# Altium footprint library Microstrip.PcbLib: 11 footprints
Each footprint in its own frame and in the unit in brackets; x right, y up, seen from the top. Pads: shape width x height; smd on the part's side, far side on the other; paste and mask are expansions set on the pad; w line width, h text height; cw(c..) or ccw(c..) is an arc to the next point about the centre after c.
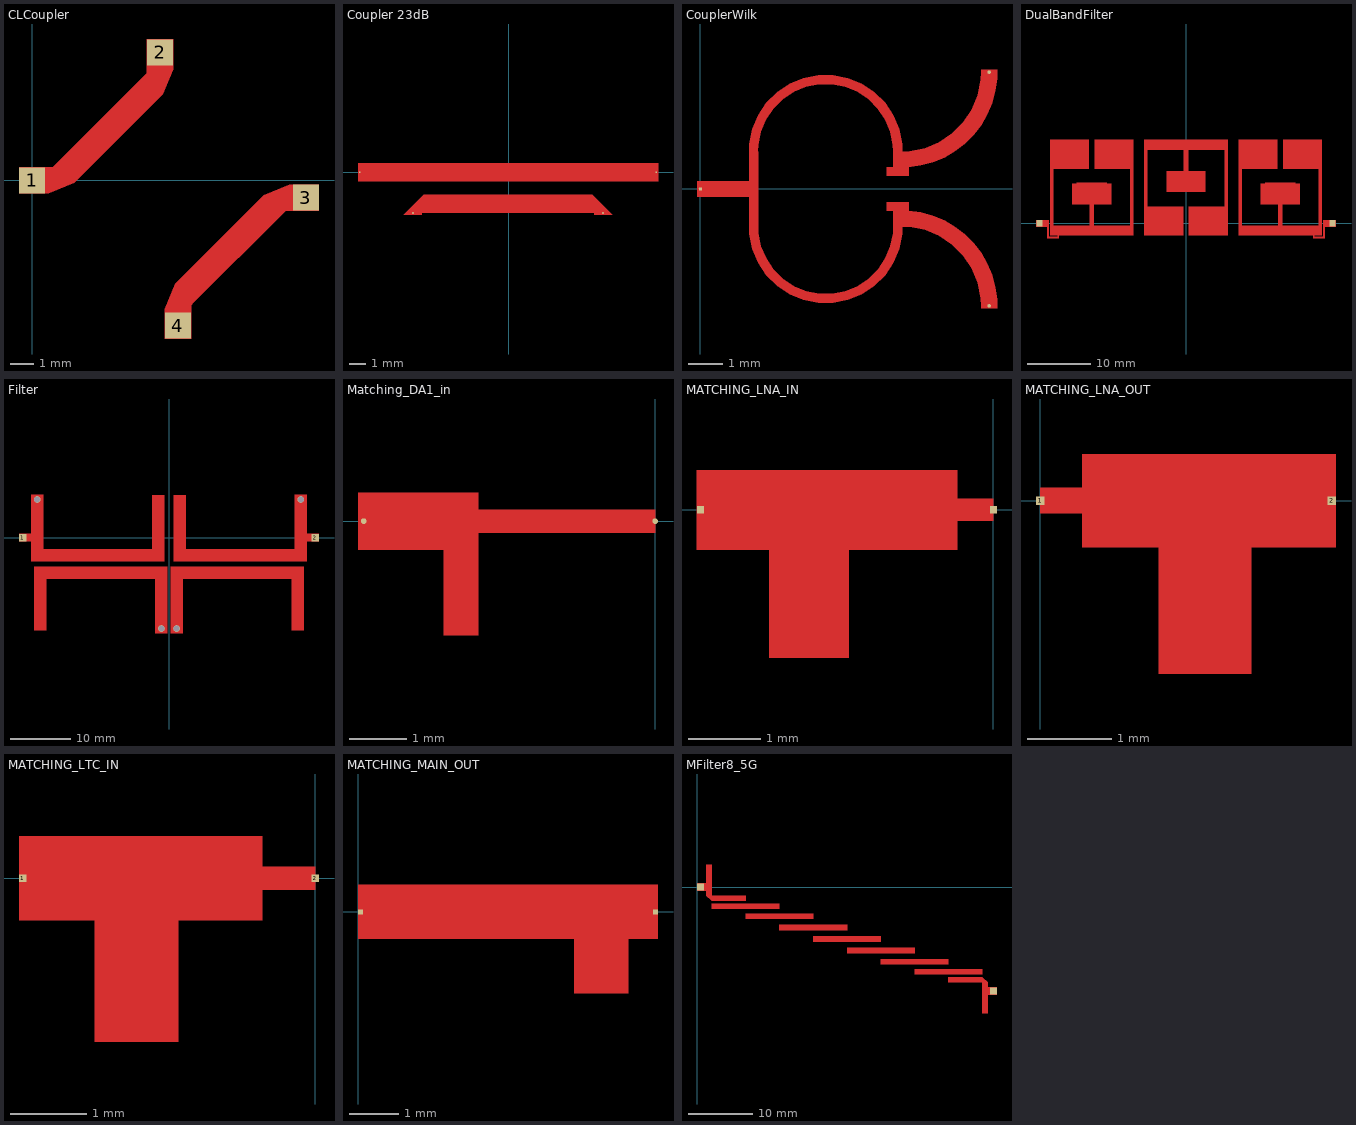
[diagram p0: the footprints below, top view; thin cyan lines are the x and y axes]

## CLCoupler [mm] "Coupler 40 dB, diel RO4003 0.5 oz ED 20 mil"
pads (4):
  rect 1.1x1.1 smd paste-0.55 mask-0.55: 1(0,0) 2(5.375,5.375) 3(11.5,-0.725) 4(6.125,-6.1)
Top Layer:
  region: 5.575,-6.65 5.575,-5.42 6.007,-4.35 9.725,-0.625 10.8,-0.175 12.05,-0.175 12.05,-1.275 10.65,-1.275 10.525,-1.4 6.785,-5.128 6.675,-5.25 6.675,-6.65
  region: -0.55,-0.55 -0.55,0.55 0.875,0.549 0.987,0.67 4.713,4.397 4.825,4.5 4.825,5.925 5.925,5.925 5.925,4.675 5.491,3.619 1.765,-0.108 0.7,-0.55

## Coupler 23dB [mm] "Copuler, 23 dB, diel RO4003, h=0.5mm"
pads (4):
  round 0.1 smd paste-0.05 mask-0.05: 1(-9.059,0) 2(8.941,0) 3(5.709,-2.467) 4(-5.826,-2.467)
Top Layer:
  region: -5.276,-2.567 -5.276,-2.45 -5.159,-2.45 5.159,-2.45 5.159,-2.567 6.259,-2.567 5.041,-1.35 -5.159,-1.35 -6.376,-2.567
  region: -9.159,-0.55 -9.159,0.55 9.041,0.55 9.041,-0.55

## CouplerWilk [mm] "Wilkinson Coupler diel 7.2GHz, RO4003, h=0.2mm"
pads (3):
  round 0.1 smd paste-0.1 mask-0.1: 1(0,0) 2(8.278,3.35) 3(8.278,-3.35)
Top Layer:
  region: 8.053,-3.425 8.053,-3.35 8.503,-3.35 8.503,-3.425
  region: 8.053,3.35 8.053,3.425 8.503,3.425 8.503,3.35
  region: 1.401,-1.074 1.401,-0.226 -0.1,-0.226 -0.1,0.226 1.401,0.226 1.401,1.074 1.401,1.29 1.485,1.713 1.65,2.112 1.89,2.47 2.195,2.775 2.554,3.015 2.952,3.18 3.375,3.264 3.806,3.264 4.229,3.18 4.628,3.015 4.986,2.775 5.291,2.47 5.531,2.112 5.696,1.713 5.78,1.29 5.78,1.074 6.003,1.086 6.44,1.173 6.852,1.344 7.222,1.592 7.538,1.907 7.785,2.278 7.956,2.69 8.042,3.127 8.053,3.35 8.503,3.35 8.503,3.172 8.456,2.818 8.364,2.473 8.227,2.143 8.049,1.834 7.832,1.551 7.579,1.299 7.296,1.081 6.987,0.903 6.657,0.766 6.312,0.674 5.959,0.627 5.78,0.627 5.78,0.625 5.966,0.625 5.966,0.376 5.341,0.376 5.341,0.625 5.529,0.625 5.529,1.074 5.519,1.265 5.445,1.638 5.299,1.989 5.088,2.305 4.819,2.574 4.503,2.786 4.151,2.931 3.778,3.006 3.398,3.006 3.025,2.931 2.673,2.786 2.357,2.574 2.088,2.305 1.877,1.989 1.731,1.638 1.657,1.265 1.648,1.074 1.65,1.074 1.65,-1.074 1.659,-1.265 1.734,-1.638 1.879,-1.989 2.091,-2.305 2.36,-2.574 2.676,-2.786 3.027,-2.931 3.4,-3.006 3.781,-3.006 4.154,-2.931 4.505,-2.786 4.822,-2.574 5.091,-2.305 5.302,-1.989 5.448,-1.638 5.522,-1.265 5.531,-1.074 5.529,-1.074 5.529,-0.625 5.341,-0.625 5.341,-0.376 5.966,-0.376 5.966,-0.625 5.78,-0.625 5.959,-0.625 6.313,-0.672 6.657,-0.765 6.987,-0.901 7.296,-1.08 7.579,-1.298 7.832,-1.55 8.049,-1.834 8.227,-2.143 8.364,-2.473 8.456,-2.818 8.503,-3.172 8.503,-3.35 8.053,-3.35 8.042,-3.127 7.956,-2.69 7.785,-2.279 7.537,-1.908 7.222,-1.593 6.852,-1.345 6.44,-1.175 6.003,-1.088 5.78,-1.077 5.78,-1.074 5.78,-1.29 5.696,-1.713 5.531,-2.112 5.291,-2.47 4.986,-2.775 4.628,-3.015 4.229,-3.18 3.806,-3.264 3.375,-3.264 2.952,-3.18 2.554,-3.015 2.195,-2.775 1.89,-2.47 1.65,-2.112 1.485,-1.713 1.401,-1.29

## DualBandFilter [mm] "DualBandFilter on coupled resonators"
pads (2):
  rect 1x1 smd paste-0.5 mask-0.5: 1(-23,0) 2(23,0)
Top Layer:
  region: -21.75,-2.3 -21.75,-0.5 -23.55,-0.5 -23.55,0.5 -21.55,0.5 -21.55,-2.1 -20.15,-2.1 -20.15,-1.9 -21.35,-1.9 -21.35,13.1 -15.25,13.1 -15.25,8.6 -20.85,8.6 -20.85,-0.4 -15.15,-0.4 -15.15,3 -17.85,3 -17.85,6.2 -17.15,6.2 -17.15,6.4 -12.45,6.4 -12.45,6.2 -11.75,6.2 -11.75,3 -14.45,3 -14.45,-0.4 -8.75,-0.4 -8.75,8.6 -14.35,8.6 -14.35,13.1 -8.25,13.1 -8.25,-1.9 -19.95,-1.9 -19.95,-2.3
  region: -6.05,2.6 -6.05,11.6 -0.35,11.6 -0.35,8.2 -3.05,8.2 -3.05,5 3.05,5 3.05,8.2 0.35,8.2 0.35,11.6 6.05,11.6 6.05,2.6 0.45,2.6 0.45,-1.9 6.55,-1.9 6.55,13.1 -6.55,13.1 -6.55,-1.9 -0.45,-1.9 -0.45,2.6
  region: 8.75,-0.4 14.45,-0.4 14.45,3 11.75,3 11.75,6.2 12.45,6.2 12.45,6.4 17.15,6.4 17.15,6.2 17.85,6.2 17.85,3 15.15,3 15.15,-0.4 20.85,-0.4 20.85,8.6 15.25,8.6 15.25,13.1 21.35,13.1 21.35,-1.9 20.15,-1.9 20.15,-2.1 21.55,-2.1 21.55,0.5 23.55,0.5 23.55,-0.5 21.75,-0.5 21.75,-2.3 19.95,-2.3 19.95,-1.9 8.25,-1.9 8.25,13.1 14.35,13.1 14.35,8.6 8.75,8.6

## Filter [mm] "Bandpass filter, Fc 1.250GHz, BW 75 MHz, type - four pole microstrip cross coupled resonators, diel RO3003, h=0.5mm"
pads (6):
  rect 1.2x1.2 smd paste-0.6 mask-0.6: 1(-24.15,0) 2(24.15,0)
  round 1.1 hole 1 paste-0.55 mask-0.55: 3(-21.75,6.3) 3(-1.25,-15) 3(1.25,-15) 3(21.75,6.3)
Top Layer:
  region: -24.75,-0.6 -24.75,0.6 -22.75,0.6 -22.75,7.1 -20.75,7.1 -20.75,-1.9 -2.75,-1.9 -2.75,7 -0.75,7 -0.75,-3.9 -22.75,-3.9 -22.75,-0.6
  region: -22.25,-15.3 -22.25,-4.8 -0.25,-4.8 -0.25,-15.8 -2.25,-15.8 -2.25,-6.8 -20.25,-6.8 -20.25,-15.3
  region: 0.25,-15.8 0.25,-4.8 22.25,-4.8 22.25,-15.3 20.25,-15.3 20.25,-6.8 2.25,-6.8 2.25,-15.8
  region: 0.75,-3.9 0.75,7 2.75,7 2.75,-1.9 20.75,-1.9 20.75,7.1 22.75,7.1 22.75,0.6 24.75,0.6 24.75,-0.6 22.75,-0.6 22.75,-3.9

## Matching_DA1_in [mm]
pads (2):
  round 0.1 smd paste-0.05 mask-0.05: 1(-5.1,0) 2(0,0)
Top Layer:
  region: -5.2,0.5 -5.2,-0.5 -3.7,-0.5 -3.7,-2 -3.1,-2 -3.1,-0.2 0,-0.2 0,0.2 -3.1,0.2 -3.1,0.5

## MATCHING_LNA_IN [mm]
pads (2):
  rect 0.1x0.1 smd paste-0.05 mask-0.05: 1(-4.05,0) 2(0,0)
Top Layer:
  region: -3.1,-2.05 -3.1,-0.55 -4.1,-0.55 -4.1,0.55 -0.5,0.55 -0.5,0.15 0,0.15 0,-0.15 -0.5,-0.15 -0.5,-0.55 -2,-0.55 -2,-2.05

## MATCHING_LNA_OUT [mm]
pads (2):
  rect 0.1x0.1 smd paste-0.05 mask-0.05: 1(0,0) 2(3.45,0)
Top Layer:
  region: 0.5,-0.55 0.5,-0.15 0,-0.15 0,0.15 0.5,0.15 0.5,0.55 3.5,0.55 3.5,-0.55 2.5,-0.55 2.5,-2.05 1.4,-2.05 1.4,-0.55

## MATCHING_LTC_IN [mm]
pads (2):
  rect 0.1x0.1 smd paste-0.05 mask-0.05: 1(-3.85,0) 2(0,0)
Top Layer:
  region: -2.9,-2.15 -2.9,-0.55 -3.9,-0.55 -3.9,0.55 -0.7,0.55 -0.7,0.15 0,0.15 0,-0.15 -0.7,-0.15 -0.7,-0.55 -1.8,-0.55 -1.8,-2.15

## MATCHING_MAIN_OUT [mm]
pads (2):
  rect 0.1x0.1 smd paste-0.05 mask-0.05: 1(0.05,0) 2(6.05,0)
Top Layer:
  region: 0,-0.55 0,0.55 6.1,0.55 6.1,-0.55 5.5,-0.55 5.5,-1.65 4.4,-1.65 4.4,-0.55

## MFilter8_5G [mm] "Bandpass filter, Fc 8.50GHz, BW  500 MHz, type - Coupled Microstrip Filter, diel RO4003 0.5 oz ED 20 mil"
pads (2):
  rect 1.1x1.1 smd paste-0.55 mask-0.55: 1(0.55,0) 2(46.025,-16.146)
Top Layer:
  region: 44.307,-15.568 44.307,-14.794 39.031,-14.794 39.031,-14 44.333,-14 45.154,-14.794 45.154,-15.569 46.586,-15.569 46.586,-16.723 45.154,-16.723 45.154,-19.622 44.307,-19.622
  region: 33.786,-13.581 33.786,-12.786 44.333,-12.786 44.333,-13.581
  region: 28.541,-12.006 33.786,-12.006 33.786,-12.004 39.031,-12.004 39.031,-11.184 33.786,-11.184 33.786,-11.182 28.541,-11.182
  region: 23.293,-10.27 28.541,-10.27 28.541,-10.269 33.786,-10.269 33.786,-9.446 28.541,-9.446 23.293,-9.446
  region: 18.045,-8.485 18.045,-7.661 23.293,-7.661 28.541,-7.661 28.541,-8.485 23.293,-8.485
  region: 12.8,-6.7 12.8,-5.877 18.045,-5.877 18.045,-5.876 23.293,-5.876 23.293,-6.7 18.045,-6.7
  region: 7.555,-4.962 18.045,-4.964 18.045,-4.14 7.555,-4.142
  region: 2.253,-3.36 2.253,-2.566 12.8,-2.566 12.8,-3.36
  region: 0,-0.577 0,0.577 1.432,0.577 1.432,3.476 2.279,3.476 2.279,-1.352 7.555,-1.352 7.555,-2.146 2.253,-2.146 1.432,-1.352 1.432,-0.577